# EAGLE library part PIC16*F1517/19 (library microchip)
28/40/44-Pin Flash Microcontrollers with nanoWatt XLP Technology PIC16F1517/1519 AND PIC16LF1517/1519 Source: www.microchip.com PIC16F1516.pdf
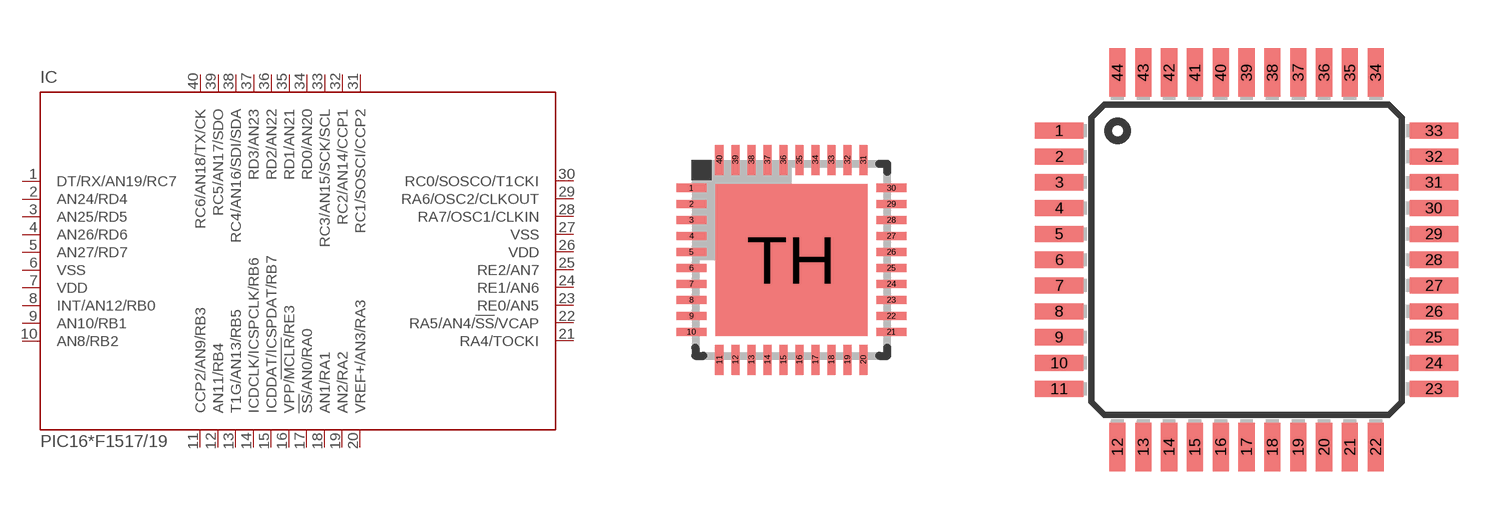
[diagram p121: symbol with the pads of UQFN40ML5X5MM; footprints UQFN40ML5X5MM, TQFP44]

Designator prefix IC

## PIC16F1517/19MV  [UQFN40ML5X5MM]
1  DT/RX/AN19/RC7
2  AN24/RD4
3  AN25/RD5
4  AN26/RD6
5  AN27/RD7
6  VSS  pwr
7  VDD  pwr
8  INT/AN12/RB0
9  AN10/RB1
10  AN8/RB2
11  CCP2/AN9/RB3
12  AN11/RB4
13  T1G/AN13/RB5
14  ICDCLK/ICSPCLK/RB6
15  ICDDAT/ICSPDAT/RB7
16  VPP/!MCLR!/RE3  in
17  !SS!/AN0/RA0
18  AN1/RA1
19  AN2/RA2
20  VREF+/AN3/RA3
21  RA4/TOCKI
22  RA5/AN4/!SS!/VCAP
23  RE0/AN5
24  RE1/AN6
25  RE2/AN7
26  VDD  pwr
27  VSS  pwr
28  RA7/OSC1/CLKIN
29  RA6/OSC2/CLKOUT
30  RC0/SOSCO/T1CKI
31  RC1/SOSCI/CCP2
32  RC2/AN14/CCP1
33  RC3/AN15/SCK/SCL
34  RD0/AN20
35  RD1/AN21
36  RD2/AN22
37  RD3/AN23
38  RC4/AN16/SDI/SDA
39  RC5/AN17/SDO
40  RC6/AN18/TX/CK

## PIC16F1517/19PT  [TQFP44]
1  DT/RX/AN19/RC7
2  AN24/RD4
3  AN25/RD5
4  AN26/RD6
5  AN27/RD7
6  VSS  pwr
7  VDD  pwr
8  INT/AN12/RB0
9  AN10/RB1
10  AN8/RB2
11  CCP2/AN9/RB3
14  AN11/RB4
15  T1G/AN13/RB5
16  ICDCLK/ICSPCLK/RB6
17  ICDDAT/ICSPDAT/RB7
18  VPP/!MCLR!/RE3  in
19  !SS!/AN0/RA0
20  AN1/RA1
21  AN2/RA2
22  VREF+/AN3/RA3
23  RA4/TOCKI
24  RA5/AN4/!SS!/VCAP
25  RE0/AN5
26  RE1/AN6
27  RE2/AN7
28  VDD  pwr
29  VSS  pwr
30  RA7/OSC1/CLKIN
31  RA6/OSC2/CLKOUT
32  RC0/SOSCO/T1CKI
35  RC1/SOSCI/CCP2
36  RC2/AN14/CCP1
37  RC3/AN15/SCK/SCL
38  RD0/AN20
39  RD1/AN21
40  RD2/AN22
41  RD3/AN23
42  RC4/AN16/SDI/SDA
43  RC5/AN17/SDO
44  RC6/AN18/TX/CK

## PIC16F1517/19P, PIC16LF1517/19P  [DIL40]
1  VPP/!MCLR!/RE3  in
2  !SS!/AN0/RA0
3  AN1/RA1
4  AN2/RA2
5  VREF+/AN3/RA3
6  RA4/TOCKI
7  RA5/AN4/!SS!/VCAP
8  RE0/AN5
9  RE1/AN6
10  RE2/AN7
11  VDD  pwr
12  VSS  pwr
13  RA7/OSC1/CLKIN
14  RA6/OSC2/CLKOUT
15  RC0/SOSCO/T1CKI
16  RC1/SOSCI/CCP2
17  RC2/AN14/CCP1
18  RC3/AN15/SCK/SCL
19  RD0/AN20
20  RD1/AN21
21  RD2/AN22
22  RD3/AN23
23  RC4/AN16/SDI/SDA
24  RC5/AN17/SDO
25  RC6/AN18/TX/CK
26  DT/RX/AN19/RC7
27  AN24/RD4
28  AN25/RD5
29  AN26/RD6
30  AN27/RD7
31  VSS  pwr
32  VDD  pwr
33  INT/AN12/RB0
34  AN10/RB1
35  AN8/RB2
36  CCP2/AN9/RB3
37  AN11/RB4
38  T1G/AN13/RB5
39  ICDCLK/ICSPCLK/RB6
40  ICDDAT/ICSPDAT/RB7

## Footprint UQFN40ML5X5MM (pad centres in mm)
40-Lead Platic Ultra Thin Quad Flat, No Lead Package (MV) - 5x5mm Body [UQFN] Source: www.microchip.com PIC16F1516.pdf
smd 0.75 x 0.2: 1 -2.5,1.8; 2 -2.5,1.4; 3 -2.5,1; 4 -2.5,0.6; 5 -2.5,0.2; 6 -2.5,-0.2; 7 -2.5,-0.6; 8 -2.5,-1; 9 -2.5,-1.4; 10 -2.5,-1.8; 21 2.5,-1.8; 22 2.5,-1.4; 23 2.5,-1; 24 2.5,-0.6; 25 2.5,-0.2; 26 2.5,0.2; 27 2.5,0.6; 28 2.5,1; 29 2.5,1.4; 30 2.5,1.8
smd 0.2 x 0.75: 11 -1.8,-2.5; 12 -1.4,-2.5; 13 -1,-2.5; 14 -0.6,-2.5; 15 -0.2,-2.5; 16 0.2,-2.5; 17 0.6,-2.5; 18 1,-2.5; 19 1.4,-2.5; 20 1.8,-2.5; 31 1.8,2.5; 32 1.4,2.5; 33 1,2.5; 34 0.6,2.5; 35 0.2,2.5; 36 -0.2,2.5; 37 -0.6,2.5; 38 -1,2.5; 39 -1.4,2.5; 40 -1.8,2.5
smd 3.8 x 3.8: TH 0,0

## Footprint TQFP44 (pad centres in mm)
Thin Quad Flat Pack package type TQ
smd 1.5 x 0.5: 1 -5.8,4; 2 -5.8,3.2; 3 -5.8,2.4; 4 -5.8,1.6; 5 -5.8,0.8; 6 -5.8,0; 7 -5.8,-0.8; 8 -5.8,-1.6; 9 -5.8,-2.4; 10 -5.8,-3.2; 11 -5.8,-4; 23 5.8,-4; 24 5.8,-3.2; 25 5.8,-2.4; 26 5.8,-1.6; 27 5.8,-0.8; 28 5.8,0; 29 5.8,0.8; 30 5.8,1.6; 31 5.8,2.4; 32 5.8,3.2; 33 5.8,4
smd 0.5 x 1.5: 12 -4,-5.8; 13 -3.2,-5.8; 14 -2.4,-5.8; 15 -1.6,-5.8; 16 -0.8,-5.8; 17 0,-5.8; 18 0.8,-5.8; 19 1.6,-5.8; 20 2.4,-5.8; 21 3.2,-5.8; 22 4,-5.8; 34 4,5.8; 35 3.2,5.8; 36 2.4,5.8; 37 1.6,5.8; 38 0.8,5.8; 39 0,5.8; 40 -0.8,5.8; 41 -1.6,5.8; 42 -2.4,5.8; 43 -3.2,5.8; 44 -4,5.8

## Footprint DIL40 (pad centres in mm)
Dual In Line package type P
drill 0.813 long: 1 -24.13,-7.62; 2 -21.59,-7.62; 3 -19.05,-7.62; 4 -16.51,-7.62; 5 -13.97,-7.62; 6 -11.43,-7.62; 7 -8.89,-7.62; 8 -6.35,-7.62; 9 -3.81,-7.62; 10 -1.27,-7.62; 11 1.27,-7.62; 12 3.81,-7.62; 13 6.35,-7.62; 14 8.89,-7.62; 15 11.43,-7.62; 16 13.97,-7.62; 17 16.51,-7.62; 18 19.05,-7.62; 19 21.59,-7.62; 20 24.13,-7.62; 21 24.13,7.62; 22 21.59,7.62; 23 19.05,7.62; 24 16.51,7.62; 25 13.97,7.62; 26 11.43,7.62; 27 8.89,7.62; 28 6.35,7.62; 29 3.81,7.62; 30 1.27,7.62; 31 -1.27,7.62; 32 -3.81,7.62; 33 -6.35,7.62; 34 -8.89,7.62; 35 -11.43,7.62; 36 -13.97,7.62; 37 -16.51,7.62; 38 -19.05,7.62; 39 -21.59,7.62; 40 -24.13,7.62